# EAGLE library part 6116526-1 (library 6116526-1)
CONN MOD JACK 8P8C R/A SHIELDED
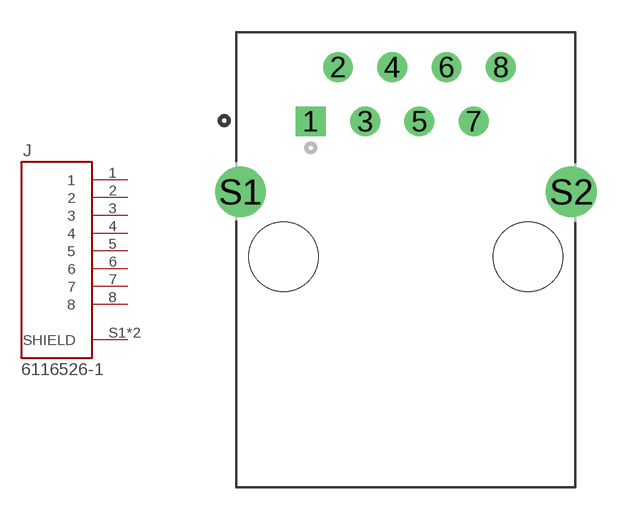
[diagram p0: symbol with the pads of TE_6116526-1; footprint TE_6116526-1]

Designator prefix J

## 6116526-1 (Comment: 6116526-1; Description: Conn RJ-45 F 8 POS 2.54mm Solder RA Thru-Hole 8 Terminal 1 Port Cat 5 Box/Tray; Digi-Key_Part_Number: A107222-ND; MF: TE Connectivity; MP: 6116526-1; Package: None; Purchase-URL: https://pricing.snapeda.com/search/part/6116526-1/?ref=eda)  [TE_6116526-1]
1  1  pas
2  2  pas
3  3  pas
4  4  pas
5  5  pas
6  6  pas
7  7  pas
8  8  pas
S1  SHIELD  pas
S2  SHIELD  pas

## Footprint TE_6116526-1 (pad centres in mm)
drill 0.89 square: 1 0,0
drill 0.89: 2 1.27,2.54; 3 2.54,0; 4 3.81,2.54; 5 5.08,0; 6 6.35,2.54; 7 7.62,0; 8 8.89,2.54
drill 1.58: S1 -3.3,-3.3; S2 12.19,-3.3
hole 3.25 at -1.27,-6.35
hole 3.25 at 10.16,-6.35